# Altium footprint library PPTC081LFBN-RC.PcbLib: 1 footprints
Each footprint in its own frame and in the unit in brackets; x right, y up, seen from the top. Pads: shape width x height; smd on the part's side, far side on the other; paste and mask are expansions set on the pad; w line width, h text height; cw(c..) or ccw(c..) is an arc to the next point about the centre after c.
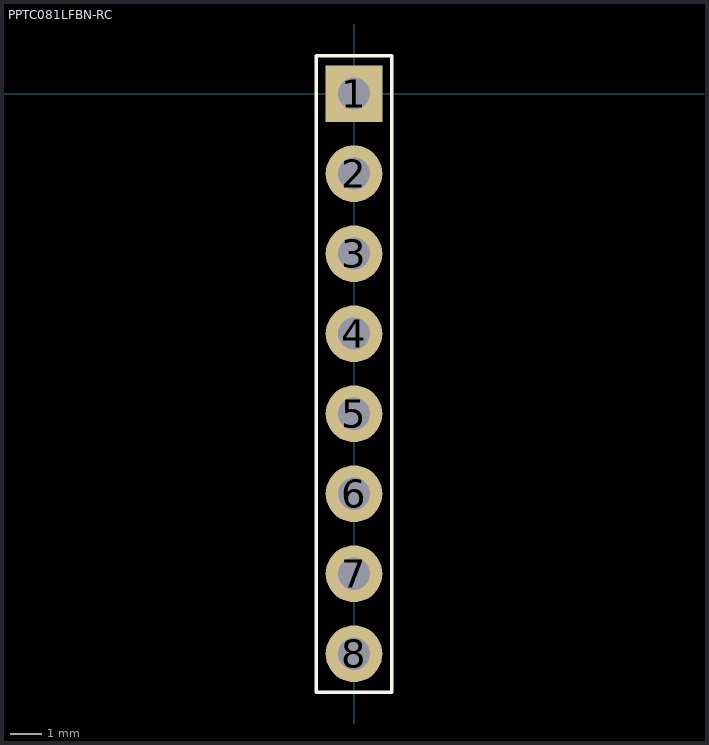
[diagram p0: the footprint, top view; thin cyan lines are the x and y axes]

## PPTC081LFBN-RC [mm]
pads (8):
  rect 1.8x1.8 hole 1.02 paste-2539.97 mask+0.5: 1(0,0)
  round 1.8 hole 1.02 paste-2539.97 mask+0.5: 2(0,-2.54) 3(0,-5.08) 4(0,-7.62) 5(0,-10.16) 6(0,-12.7) 7(0,-15.24) 8(0,-17.78)
Top Overlay:
  lines w0.12: -1.2,-19 -1.2,1.2 1.2,1.2 1.2,-19 -1.2,-19